# Altium schematic symbol library integrated_circuits_schematic.SchLib: 128 symbols (part 2 of 5)
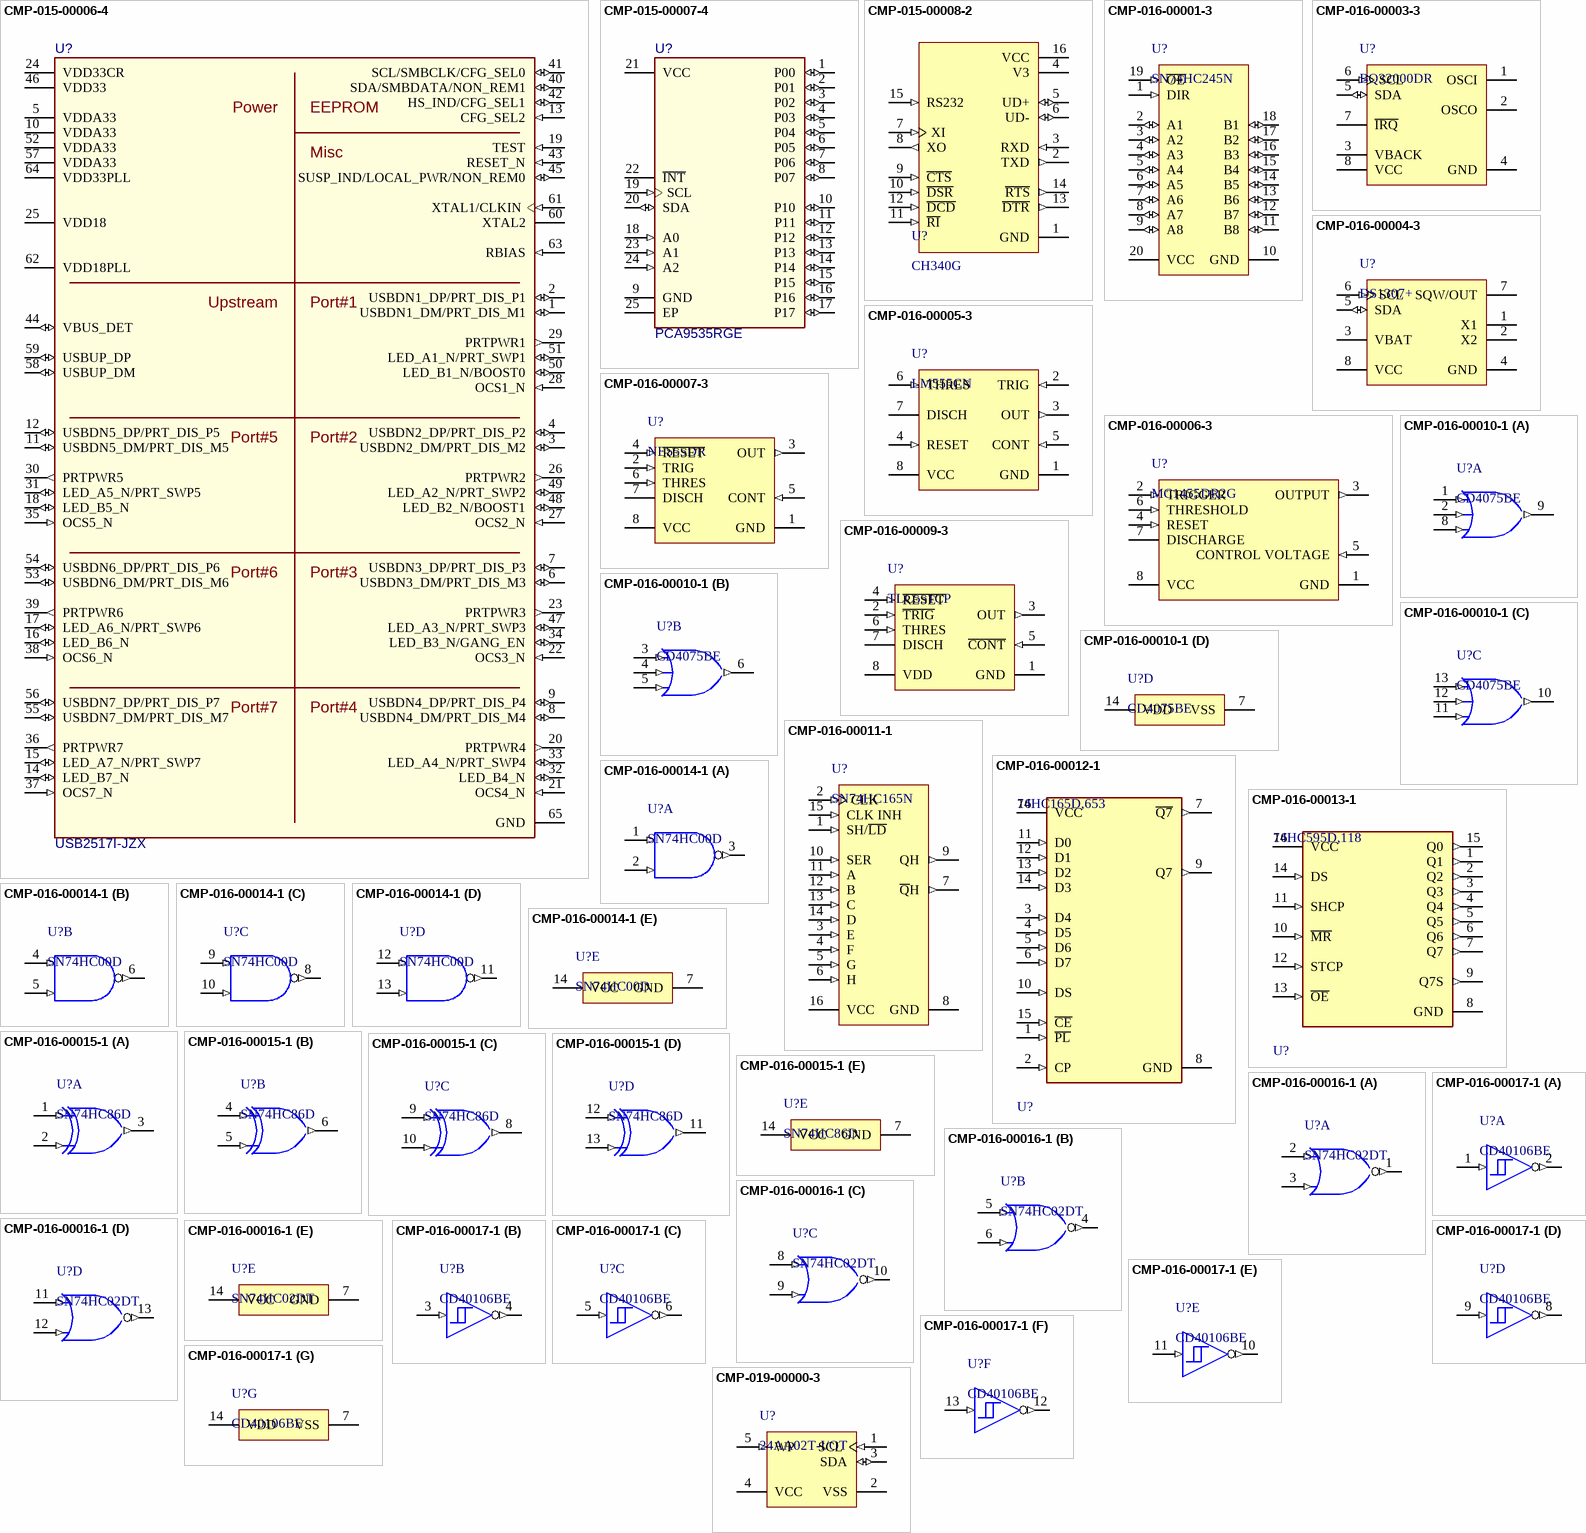
[diagram p8: symbols CMP-015-00006-4 to CMP-019-00000-3]

## CMP-016-00016-1
designator U?, comment SN74HC02DT
NOR Gate, HC Series, 4-Func, 2-Input, CMOS, PDSO14; Min Supply Voltage: 2V; Max Supply Voltage: 6V; Nominal Supply Voltage: 5V; Max Operating Temperature: 85°C; Case/Package: SOP; Min Operating Temperature: -40°C; Logic Type: NOR GATE; RoHS Compliant: Yes; Pins: 14
footprint D0014A_M-4 (SOIC, 14-Leads, Body 8.75x4mm, Pitch 1.27mm, IPC Low Density)
footprint D0014A_N-5 (SOIC, 14-Leads, Body 8.75x4mm, Pitch 1.27mm, IPC Medium Density)
footprint D0014A_L-6 (SOIC, 14-Leads, Body 8.75x4mm, Pitch 1.27mm, IPC High Density)
part A pins: 1 1Y (out) "1Y output", 2 1A (in) "1A input", 3 1B (in) "1B input"
part B pins: 4 2Y (out) "2Y output", 5 2A (in) "2A input", 6 2B (in) "2B input"
part C pins: 8 3A (in) "3A input", 9 3B (in) "3B input", 10 3Y (out) "3Y output"
part D pins: 11 4A (in) "4A input", 12 4B (in) "4B input", 13 4Y (out) "4Y output"
part E pins: 7 GND (power), 14 VCC (power)

## CMP-016-00017-1
designator U?, comment CD40106BE
Inverter, 4000/14000/40000 Series, 6-Func, 1-Input, CMOS, PDIP14; Min Supply Voltage: 3V; Nominal Supply Voltage: 5V; Max Supply Voltage: 18V; Max Operating Temperature: 125°C; Pins: 14; Logic Type: INVERTER; Case/Package: DIP; RoHS Compliant: Yes; Min Operating Temperature: -55°C
footprint N0014A (DIP, 14-Leads, Body 19.7x6.6mm, Pitch 2.54mm)
part A pins: 1 A (in), 2 G=~{A} (out)
part B pins: 3 B (in), 4 H=~{B} (out)
part C pins: 5 C (in), 6 I=~{C} (out)
part D pins: 8 J=~{D} (out), 9 D (in)
part E pins: 10 K=~{E} (out), 11 E (in)
part F pins: 12 L=~{F} (out), 13 F (in)
part G pins: 7 VSS (power), 14 VDD (power)

## CMP-019-00000-3
designator U?, comment 24AA02T-I/OT
I2C Serial EEPROM, 2 Kbit, 1.7 V, -40 to 85 degC, 5-Pin SOT-23, RoHS, Tape and Reel; Manufacturer: Microchip; Access Time: 900ns; Clock Frequency: 400kHz; Density: 2Kb; Max Supply Voltage: 5.5V; Nominal Supply Current: 3mA; Min Supply Voltage: 1.8V; Mounting Technology: SM; Max Operating Temperature: 85°C; Package Description: 5-Pin Small Outline Transistor, Body 2.9 x 1.55 mm, Pitch 0.95 mm; Interface: I2C; Datasheet Version: Rev. J, 02/2009; Packaging: TapeandReel; RoHS Compliant: True; Min Operating Temperature: -40°C; Package Quantity: 3000; Max Clock Frequency: 400KHz; Pins: 5; Datasheet URL: http://ww1.microchip.com/downloads/en/DeviceDoc/21709J.pdf; Frequency: 400kHz; Case/Package: SOT-23-5; Package Reference: SOT23-5; Manufacturer URL: http://www.microchip.com/; Package URL: http://www.microchip.com/stellent/groups/techpub_sg/documents/packagingspec/en012702.pdf
footprint MCHP-SOT23-5_N (SOT23, 5-Leads, Body 3.10x1.80mm, Pitch 0.95mm, IPC Medium Density)
footprint MCHP-SOT23-5_M (SOT23, 5-Leads, Body 3.10x1.80mm, Pitch 0.95mm, IPC Low Density)
footprint MCHP-SOT23-5_L (SOT23, 5-Leads, Body 3.10x1.80mm, Pitch 0.95mm, IPC High Density)
pins: 1 SCL (in), 2 VSS (power), 3 SDA (io), 4 VCC (power), 5 WP (in)

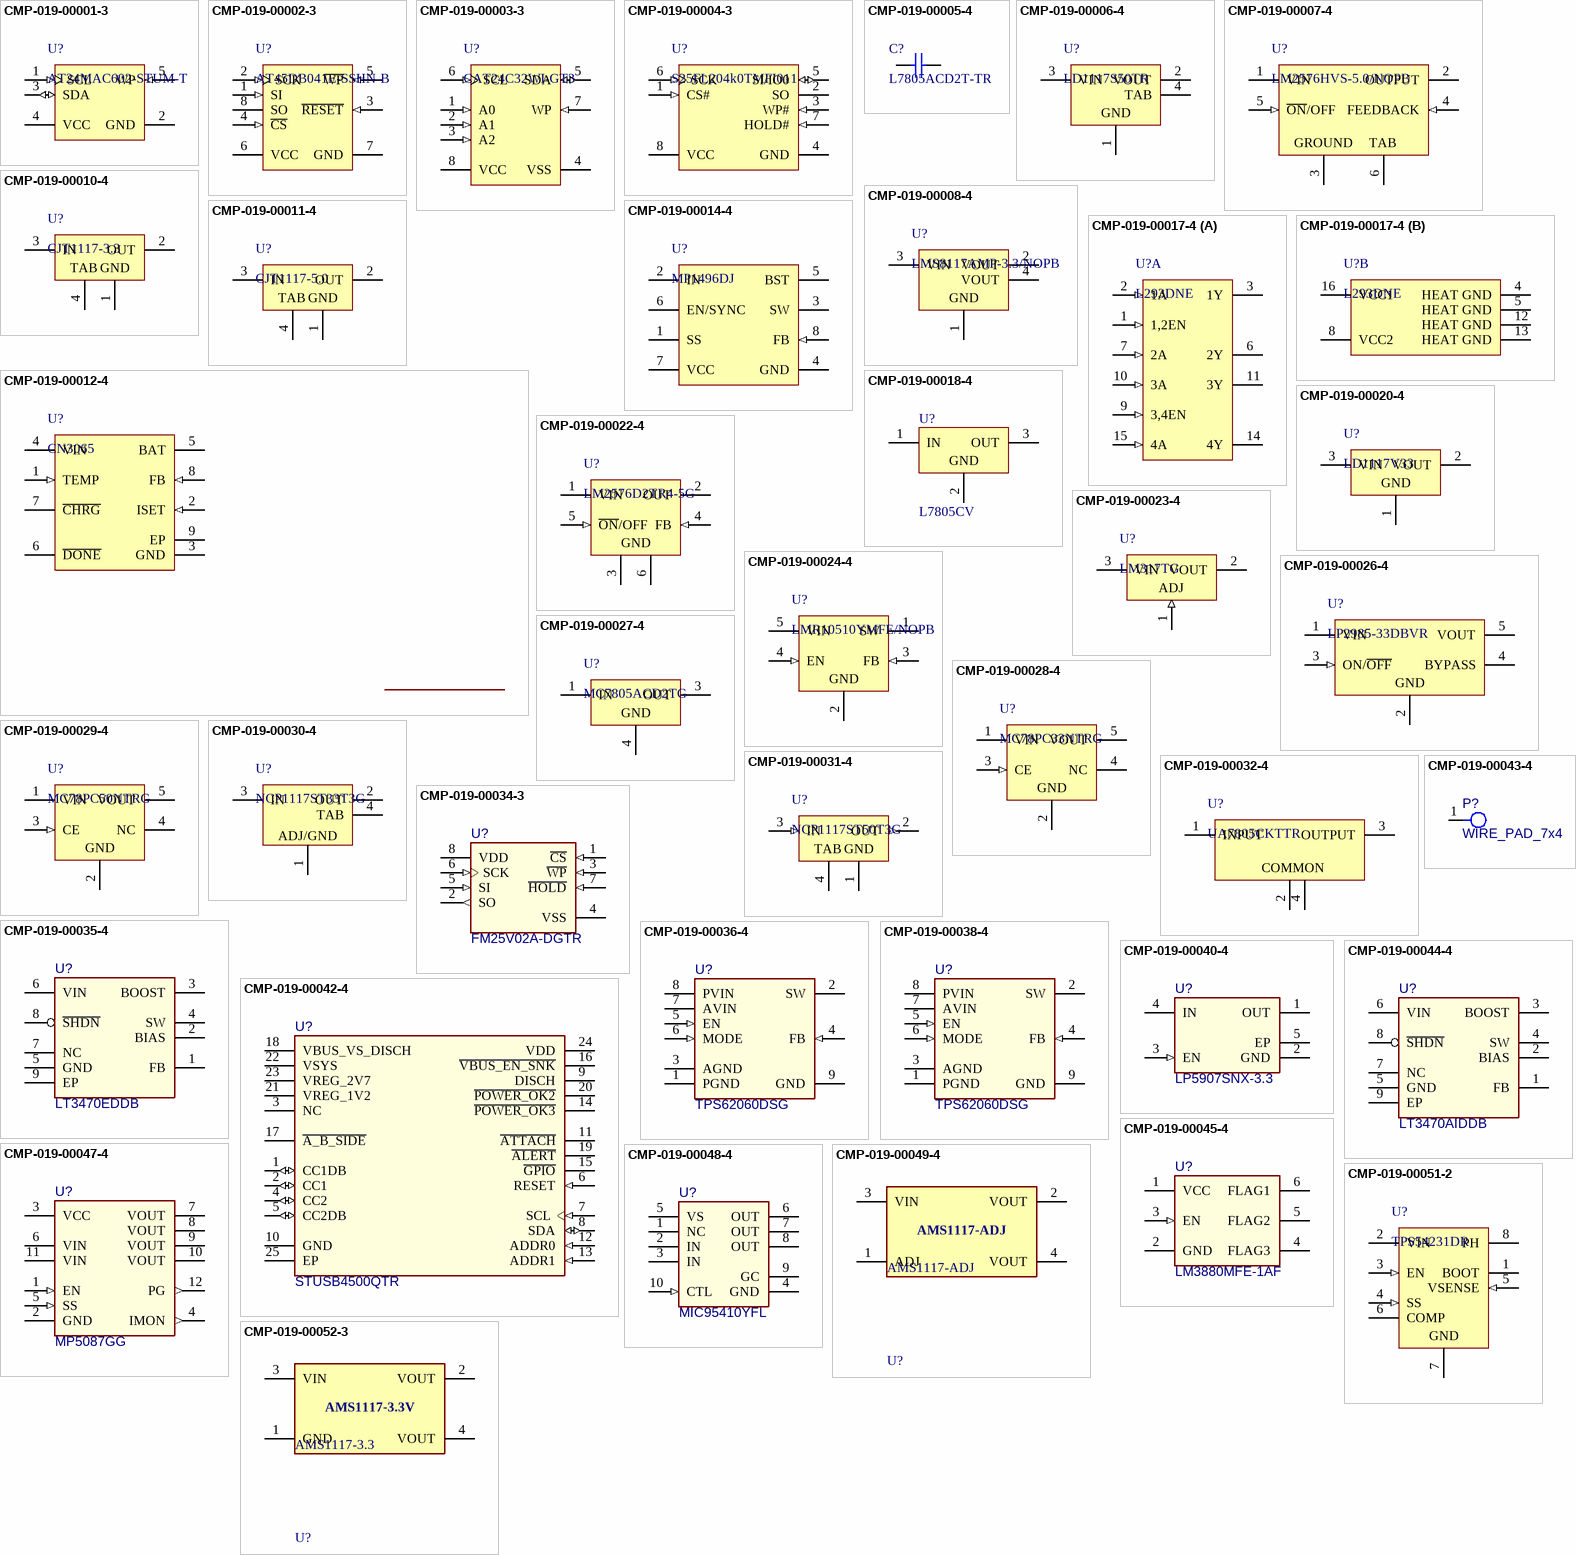
[diagram p2: symbols CMP-019-00001-3 to CMP-019-00052-3]

## CMP-019-00001-3
designator U?, comment AT24MAC602-STUM-T
2-wire Serial EEPROM with a Factory-Programmed EUI-64(TM)Address Plus an Embedded Unique 128-bit Serial Number, 2 Kbit, 1.7 to 5.5 V, -40 to 85 degC, 5-Pin SOT23 (5TS1), Tape and Reel; Manufacturer: Atmel; Nominal Supply Current: 3mA; Access Time: 550ns; Min Supply Voltage: 1.7V; Max Clock Frequency: 1MHz; Density: 2Kb; Max Supply Voltage: 5.5V; Package Description: 5-Pin Plastic Thin Shrink Small Outline Package, Body 2.9 x 1.6 mm, Pitch 0.95 mm; Package Quantity: 5000; Datasheet URL: http://www.atmel.com/Images/Atmel-8807-SEEPROM-AT24MAC402-602-Datasheet.pdf; Max Operating Temperature: 85°C; Case/Package: SOT-23-5; RoHS Compliant: True; Datasheet Version: Rev. 8808E, 01/2015; Interface: Serial; Frequency: 1MHz; Packaging: TapeandReel; Mounting Technology: SM; Package Reference: 5TS1; Manufacturer URL: http://www.atmel.com/; Min Operating Temperature: -40°C; Pins: 5
footprint ATML-5TS1_L (SOT23, 5-Leads, Body 2.9x1.6mm, Pitch 0.95mm, IPC High Density)
footprint ATML-5TS1_M (SOT23, 5-Leads, Body 2.9x1.6mm, Pitch 0.95mm, IPC Low Density)
footprint ATML-5TS1_N (SOT23, 5-Leads, Body 2.9x1.6mm, Pitch 0.95mm, IPC Medium Density)
pins: 1 SCL (in) "Serial Clock Input", 2 GND (power) "Ground", 3 SDA (io) "Serial Data", 4 VCC (power) "Power Supply", 5 WP (in) "Write Protect"

## CMP-019-00002-3
designator U?, comment AT45DB041E-SSHN-B
SPI Serial Flash Memory, 4-Mbit, 1.65 to 3.6 V, -40 to 85 degC, 8-Pin SOIC (8S1), RoHS, Tube; Manufacturer: Adesto; Max Clock Frequency: 70MHz; Access Time: 7ns; Nominal Supply Current: 15mA; Page Size: 264B; Nominal Supply Voltage: 1.8V; Word Size: 8b; Max Supply Voltage: 3.6V; Density: 4Mb; Clock Frequency: 85MHz; Min Supply Voltage: 1.65V; Pins: 8; RoHS Compliant: True; Package Description: 8-Pin Small Outline Integrated Circuit, Body 4.925 x 3.9 mm, Pitch 1.27 mm; Mounting Technology: SM; Manufacturer URL: http://www.adestotech.com/; Packaging: Rail/Tube; Package Reference: 8S1; Min Operating Temperature: -40°C; Max Operating Temperature: 85°C; Case/Package: SOIC; Package Quantity: 98; Datasheet URL: http://www.adestotech.com/wp-content/uploads/doc8783.pdf; Datasheet Version: Rev. 8783I, 03/2016; Interface: SPI
footprint ADST-8S1_M (SOIC, 8-Leads, Body 5.1x4mm, Pitch 1.27mm, IPC Low Density)
footprint ADST-8S1_L (SOIC, 8-Leads, Body 5.1x4mm, Pitch 1.27mm, IPC High Density)
footprint ADST-8S1_N (SOIC, 8-Leads, Body 5.1x4mm, Pitch 1.27mm, IPC Medium Density)
pins: 1 SI (in) "Serial Input: The SI pin is used to shift data into the device. The SI pin is used for all data input including command and address sequences. Data on the SI pin is always latched on the rising edge of SCK. Data present on (See Datasheet)", 2 SCK (in) "Serial Clock: This pin is used to provide a clock to the device and is used to control the flow of data to and from the device. Command, address, and input data present on the SI pin is always latched on the rising edge of (See Datasheet)", 3 ~{RESET} (in) "Reset: A low state on the reset pin (R\E\S\E\T\) will terminate the operation in progress and reset the internal state machine to an idle state. The device will remain in the reset condition as long as a low level is present (See Datasheet)", 4 ~{CS} (in) "Chip Select: Asserting the C\S\ pin selects the device. When the C\S\ pin is deasserted, the device will be deselected and normally be placed in the standby mode (not Deep Power-Down mode) and the output pin (SO) will be in (See Datasheet)", 5 ~{WP} (in) "Write Protect: When the W\P\ pin is asserted, all sectors specified for protection by the Sector Protection Register will be protected against program and erase operations regardless of whether the Enable Sector Protection (See Datasheet)", 6 VCC (power) "Device Power Supply: The VCC pin is used to supply the source voltage to the device. Operations at invalid VCC voltages may produce spurious results and should not be attempted.", 7 GND (power) "Ground: The ground reference for the power supply. GND should be connected to the system ground.", 8 SO (hiz) "Serial Output: The SO pin is used to shift data out from the device. Data on the SO pin is always clocked out on the falling edge of SCK. The SO pin will be in a high-impedance state whenever the device is deselected (C\S\ (See Datasheet)"

## CMP-019-00003-3
designator U?, comment CAT24C32WI-GT3
I2C CMOS Serial EEPROM, 32 Kb, 1.7 to 5.5 V, -40 to 85 degC, 8-Pin SOIC (751BD), RoHS, Tape and Reel; Manufacturer: ON Semiconductor; Nominal Supply Current: 2mA; Access Time: 3500ns; Clock Frequency: 100kHz; Density: 32Kb; Max Supply Voltage: 5.5V; Frequency: 400kHz; Min Supply Voltage: 1.7V; Package URL: http://www.onsemi.com/pub_link/Collateral/751BD.PDF; Max Operating Temperature: 85°C; Pins: 8; Min Operating Temperature: -40°C; Datasheet URL: http://www.onsemi.com/pub_link/Collateral/CAT24C32-D.PDF; Manufacturer URL: http://www.onsemi.com/; Interface: Serial; Datasheet Version: Rev. 24, 06/2015; RoHS Compliant: True; Max Clock Frequency: 100KHz; Mounting Technology: SM; Package Description: 8-Pin Small Outline Integrated Circuit, Body 4.9 x 3.9 mm, Pitch 1.27 mm; Case/Package: SOIC; Package Reference: SOIC-8-751BD-01; Packaging: TapeandReel; Package Quantity: 3000
footprint ONSC-SOIC-8-751BD-01_M (SOIC, 8-Leads, Body 5x4mm, Pitch 1.27mm, IPC Low Density)
footprint ONSC-SOIC-8-751BD-01_L (SOIC, 8-Leads, Body 5x4mm, Pitch 1.27mm, IPC High Density)
footprint ONSC-SOIC-8-751BD-01_N (SOIC, 8-Leads, Body 5x4mm, Pitch 1.27mm, IPC Medium Density)
pins: 1 A0 (in) "Device Address", 2 A1 (in) "Device Address", 3 A2 (in) "Device Address", 4 VSS (power) "Ground", 5 SDA (io) "Serial Data", 6 SCL (in) "Serial Clock", 7 WP (in) "Write Protect", 8 VCC (power) "Power Supply"

## CMP-019-00004-3
designator U?, comment S25FL204k0TMFI011
SPI Flash Memory, 2.7 to 3.6 V, -40 to 85 degC, 8-Pin SOIC (SOC 008), RoHS, Tube; Manufacturer: Cypress; Datasheet URL: http://www.cypress.com/file/196871/download; Package Reference: SOIC-8; Datasheet Version: Rev. *G , 09/2015; Package Description: 8-Pin Small Outline Integrated Circuit, Body 5.283 x 5.283 mm, Pitch 1.27 mm; RoHS Compliant: True; Mounting Technology: SM; Manufacturer URL: http://www.cypress.com/; Case/Package: SOIC-8
footprint CYP-SOC-8_N (SOIC, 8-Leads, Body 5.3x5.3mm, Pitch 1.27mm, IPC Medium Density)
footprint CYP-SOC-8_M (SOIC, 8-Leads, Body 5.3x5.3mm, Pitch 1.27mm, IPC Low Density)
footprint CYP-SOC-8_L (SOIC, 8-Leads, Body 5.3x5.3mm, Pitch 1.27mm, IPC High Density)
pins: 1 CS# (in) "Chip Enable", 2 SO (hiz) "Serial Data Output", 3 WP# (in) "Write Protect", 4 GND (power) "Ground", 5 SI/IO0 (io) "Serial Data Input / Output", 6 SCK (in) "Serial Clock Input", 7 HOLD# (in) "Hold Input", 8 VCC (power) "Supply Voltage (2.7-3.6V)"

## CMP-019-00005-4
designator C?, comment L7805ACD2T-TR
Positive Voltage Regulator IC, 5 V, 1.5 A, 0 to 125 degC, 3-Pin D2PAK, RoHS, Tape and Reel; Manufacturer: STMicroelectronics; Min Input Voltage: 7V; Max Input Voltage: 35V; Output Voltage: 5V; Max Supply Voltage: 20V; Outputs: 1; Min Supply Voltage: 7.5V; Package Version: Rev. 1, 11/2014; Dropout Voltage: 2V; Output Current: 1.5A; Max Ouput Current: 1A; Locally Supplier Name: Thegioiic; Locally Supplier URL: https://www.thegioiic.com/l7805acd2t-ic-on-ap-5v-1-5a; Package Quantity: 1000; Datasheet Version: Rev. 34, 11/2016; Manufacturer URL: http://www.st.com/; Packaging: TapeandReel; Mounting Technology: SM; Package Reference: D2PAK; Max Operating Temperature: 125°C; Case/Package: TO-263-3; Package Description: 3-Pin D2PAK, Body 10.2 x 9.15 mm, Pitch 2.54 mm; Package URL: http://www.st.com/st-web-ui/static/active/en/resource/technical/document/datasheet/DM00122355.pdf; Pins: 8; Nominal Output Voltage: 5V; Datasheet URL: http://www.st.com/content/ccc/resource/technical/document/datasheet/41/4f/b3/b0/12/d4/47/88/CD00000444.pdf/files/CD00000444.pdf/jcr:content/translations/en.CD00000444.pdf; RoHS Compliant: True; Min Operating Temperature: 0°C
footprint STM-D2PAK_V (DPAK, 3-Leads, Body 10.2x9.15mm, Pitch 2.54mm)
pins: 1, 2

## CMP-019-00006-4
designator U?, comment LD1117S50TR
Fixed Low Drop Positive Voltage Regulator, 5 V, 0 to 125 degC, 4-Pin SOT223, RoHS, Tape and Reel; Manufacturer: STMicroelectronics; Max Input Voltage: 15V; Min Input Voltage: 6.5V; Nominal Output Voltage: 5V; Power: 12W; Outputs: 1; Output Current: 950mA; Dropout Voltage: 1.1V; Max Ouput Current: 1.3A; Min Operating Temperature: 0°C; RoHS Compliant: True; Package Reference: SOT-223; Packaging: TapeandReel; Max Operating Temperature: 125°C; Locally Supplier URL: https://www.thegioiic.com/ld1117s50ctr-ic-on-ap-5v-800ma; Case/Package: TO-261-4; Max Supply Voltage: 15V; Min Supply Voltage: 6.5V; Manufacturer URL: http://www.st.com/; Output Voltage: 5V; Package Description: 4-Pin Small Outline Transistor, Body 6.5 x 3.5 mm, Pitch 2.3 mm; Datasheet URL: http://www.st.com/content/ccc/resource/technical/document/datasheet/99/3b/7d/91/91/51/4b/be/CD00000544.pdf/files/CD00000544.pdf/jcr:content/translations/en.CD00000544.pdf; Mounting Technology: SM; Datasheet Version: Nov-13; Package Quantity: 2500; Pins: 4; Locally Supplier Name: Thegioiic
footprint STM-SOT-223_N (SOT223, 4-Leads, Body 6.7x3.7mm, Pitch 2.3mm, IPC Medium Density)
footprint STM-SOT-223_M (SOT223, 4-Leads, Body 6.7x3.7mm, Pitch 2.3mm, IPC Low Density)
footprint STM-SOT-223_L (SOT223, 4-Leads, Body 6.7x3.7mm, Pitch 2.3mm, IPC High Density)
pins: 1 GND (power), 2 VOUT (power), 3 VIN (power), 4 TAB (power)

## CMP-019-00007-4
designator U?, comment LM2576HVS-5.0/NOPB
SIMPLE SWITCHER(R) Step-Down Regulator, 5 V, 3 A, -40 to 125 degC, 5-Pin TO-263 (TKK), Pb-Free (RoHS Exempt), Tube; Manufacturer: Texas Instruments; Efficiency: 77%; Max Supply Voltage: 60V; Frequency: 58kHz; Output Voltage: 5V; Min Input Voltage: 4V; Outputs: 1; Max Ouput Current: 3A; Package Quantity: 45; Packaging: Rail/Tube; Min Operating Temperature: -40°C; Datasheet URL: http://www.ti.com/lit/ds/symlink/lm2576hv.pdf; Package Description: 5-Pin Surface Mount Device, Body 10.225 x 9.91 mm, Pitch 1.7 mm; Max Input Voltage: 60V; Case/Package: TO-263-5; Manufacturer URL: http://www.ti.com/; RoHS Compliant: True; Locally Supplier Name: Thegioiic; Switching Frequency: 58KHz; Max Operating Temperature: 125°C; Min Supply Voltage: 4V; Package Reference: KTT0005B; Pins: 5; Output Current: 3A; Mounting Technology: SM; Locally Supplier URL: https://www.thegioiic.com/lm2576hvs-5-0-ic-dieu-chinh-giam-ap-5v-3a-to-263-5; Datasheet Version: SNVS107D, 05/2016
footprint KTT0005B_M (DPAK, 5-Leads, Body 10.65x9.65mm, Pitch 1.7mm, IPC Low Density)
footprint KTT0005B_L (DPAK, 5-Leads, Body 10.65x9.65mm, Pitch 1.7mm, IPC High Density)
footprint KTT0005B_N (DPAK, 5-Leads, Body 10.65x9.65mm, Pitch 1.7mm, IPC Medium Density)
pins: 1 VIN (power) "Supply input pin to collector pin of high-side transistor. Connect to power supply and input bypass capacitors CIN. Path from VIN pin to high frequency bypass CIN and GND must be as short as possible.", 2 OUTPUT (power) "Emitter pin of the power transistor. This is a switching node. Attached this pin to an inductor and the cathode of the external diode.", 3 GROUND (power) "Ground pin. Path to CIN must be as short as possible.", 4 FEEDBACK (in) "Feedback sense input pin. Connect to the midpoint of feedback divider to set VOUT for ADJ version or connect this pin directly to the output capacitor for a fixed output version.", 5 ~{ON}/OFF (in) "Enable input to the voltage regulator. High = OFF and low = ON. Connect to GND to enable the voltage regulator. Do not leave this pin float.", 6 TAB (power) "Connected to GND. Put a copper plane connected to this pin as a thermal relief for DDPAK package."

## CMP-019-00008-4
designator U?, comment LMS8117AMP-3.3/NOPB
Low-Dropout Linear Regulator, 1 A, 3.3 V, 0 to 125 degC, 4-Pin SOT223 (DCY), RoHS, Tape and Reel; Manufacturer: Texas Instruments; Min Input Voltage: 2.5V; Output Voltage: 3.3V; Max Supply Voltage: 15V; Dropout Voltage: 1.2V; Output Current: 1A; Min Supply Voltage: 3.2V; Outputs: 1; Nominal Supply Current: 5mA; Packaging: TapeandReel; Min Operating Temperature: 0°C; Package Description: 4-Pin Small Outline Transistor, Body 6.5 x 3.5 mm, Pitch 2.3 mm; Manufacturer URL: http://www.ti.com/; Datasheet URL: http://www.ti.com/lit/ds/symlink/lms8117a.pdf; Pins: 4; RoHS Compliant: True; Max Input Voltage: 15V; Mounting Technology: SM; Package Reference: DCY0004A; Max Ouput Current: 1A; Case/Package: SOT-223; Datasheet Version: SNOS487F, 05/2004; Package Quantity: 1000; Max Operating Temperature: 125°C
footprint DCY0004A_M (SOT223, 4-Leads, Body 6.7x3.7mm, Pitch 2.3mm, IPC Low Density)
footprint DCY0004A_N (SOT223, 4-Leads, Body 6.7x3.7mm, Pitch 2.3mm, IPC Medium Density)
footprint DCY0004A_L (SOT223, 4-Leads, Body 6.5x3.5mm, Pitch 2.3mm, IPC High Density)
pins: 1 GND (power) "Ground pin for fixed output option.", 2 VOUT (power) "Output voltage pin for the regulator", 3 VIN (power) "Input voltage pin for the regulator", 4 VOUT (power) "Output voltage pin for the regulator"

## CMP-019-00010-4
designator U?, comment CJT1117-3.3
Low Dropout Linear Regulator, 1 A, 3.3 V, 0 to 125 degC, 4-Pin SOT223, RoHS, Tape and Reel; Manufacturer: Jiangsu Changjiang Electronics Technology; Package Description: 4-Pin Small Outline Transistor, Body 6.3 x 3.5 mm, Pitch 2.3 mm; Datasheet URL: https://statics3.seeedstudio.com/images/opl/datasheet/1310190P1.pdf; Package URL: http://www.cj-elec.com/gallery/txUpfile/2013626129718915.pdf; Datasheet Version: Rev. A, 01/2012; RoHS Compliant: Unknown; Package Reference: SOT223-4; Mounting Technology: SM; Case/Package: SOT223-4
footprint JSCJ-SOT223-4_L (SOT223, 4-Leads, Body 6.4x3.7mm, Pitch 2.3mm, IPC High Density)
footprint JSCJ-SOT223-4_N (SOT223, 4-Leads, Body 6.4x3.7mm, Pitch 2.3mm, IPC Medium Density)
footprint JSCJ-SOT223-4_M (SOT223, 4-Leads, Body 6.4x3.7mm, Pitch 2.3mm, IPC Low Density)
pins: 1 GND (power), 2 OUT (power), 3 IN (power), 4 TAB

## CMP-019-00011-4
designator U?, comment CJT1117-5.0
Low Dropout Linear Regulator, 1 A, 5 V, 0 to 125 degC, 4-Pin SOT223, RoHS, Tape and Reel; Manufacturer: Jiangsu Changjiang Electronics Technology; Datasheet Version: Rev. A, 01/2012; Package Description: 4-Pin Small Outline Transistor, Body 6.3 x 3.5 mm, Pitch 2.3 mm; Package Reference: SOT223-4; Package URL: http://www.cj-elec.com/gallery/txUpfile/2013626129718915.pdf; Case/Package: SOT223-4; RoHS Compliant: Unknown; Datasheet URL: https://statics3.seeedstudio.com/images/opl/datasheet/1310190P1.pdf; Mounting Technology: SM
footprint JSCJ-SOT223-4_L (SOT223, 4-Leads, Body 6.4x3.7mm, Pitch 2.3mm, IPC High Density)
footprint JSCJ-SOT223-4_N (SOT223, 4-Leads, Body 6.4x3.7mm, Pitch 2.3mm, IPC Medium Density)
footprint JSCJ-SOT223-4_M (SOT223, 4-Leads, Body 6.4x3.7mm, Pitch 2.3mm, IPC Low Density)
pins: 1 GND (power), 2 OUT (power), 3 IN (power), 4 TAB

## CMP-019-00012-4
designator U?, comment CN3065
Lithium Ion Battery Charger for Solar-Powered System, 4.4 to 6 V, 650 uA, -40 to 85 degC, 8-Pin DFN, RoHS; Manufacturer: Consonance Electronic; Datasheet URL: http://www.consonance-elec.com/pdf/datasheet/DSE-CN3065.pdf; Case/Package: DFN-8; RoHS Compliant: Unknown; Package Reference: DFN-8; Package Description: 8-Pin Small Outline No-lead Package, Body 3 x 3 mm, Pitch 0.5 mm; Mounting Technology: SM; Datasheet Version: Rev. 1.0, 09/2009; Manufacturer URL: http://www.consonance-elec.com/
footprint CONS-DFN-8_N (SON, 8-Leads, Body 3.1x3.1mm, Pitch 0.5mm, Thermal Pad 2.4x1.7mm, IPC Medium Density)
footprint CONS-DFN-8_L (SON, 8-Leads, Body 3.10x3.10mm, Pitch 0.50mm, Thermal Pad 2.40x1.7mm, IPC High Density)
footprint CONS-DFN-8_M (SON, 8-Leads, Body 3.1x3.1mm, Pitch 0.5mm, Thermal Pad 2.4x1.7mm, IPC Low Density)
pins: 1 TEMP (in) "Temperature Sense Input. Connecting TEMP pin to NTC thermistor’s output in Lithium ion battery pack. If TEMP pin’s voltage is below 46% of input supply voltage VIN for more than 0.15S, this means that batter(See Datasheet)", 2 ISET (in) "Constant Charge Current Setting and Charge Current Monitor Pin. The charge current is set by connecting a resistor RISET from this pin to GND. When in precharge mode, the ISET pin’s voltage is regulated to 0.2V. When i(See Datasheet)", 3 GND (power) "Ground Terminal.", 4 VIN (power) "Positive Input Supply Voltage. VIN is the power supply to the internal circuit. When VIN drops to within 40mv of the BAT pin voltage, CN3065 enters low power sleep mode, dropping BAT pin’s current to less than 3uA.", 5 BAT (power) "Battery Connection Pin. Connect the positive terminal of the battery to BAT pin. BAT pin draws less than 3uA current in chip disable mode or in sleep mode. BAT pin provides charge current to the battery and provides (See Datasheet)", 6 ~{DONE} (hiz) "Open-Drain Charge termination Status Output. In charge termination status, D\O\N\E\ is pulled low by an internal switch; Otherwise D\O\N\E\ pin is in high impedance state.", 7 ~{CHRG} (hiz) "Open Drain Charge Status Output. When the battery is being charged, the C\H\R\G\  pin is pulled low by an internal switch, otherwise C\H\R\G\ pin is in high impedance state.", 8 FB (in) "Battery Voltage Kevin Sense Input. This Pin can Kelvin sense the battery voltage; Also the regulation voltage in constant voltage mode can be adjusted by connecting an external resistor between FB pin and BAT pin.", 9 EP

## CMP-019-00014-4
designator U?, comment MP1496DJ
High-Efficiency, Synchronous, Step-Down Converter, 2 A, 16 V, 500 KHz, -40 to 125 degC, 8-Pin TSOT23, RoHS, Tape and Reel; Manufacturer: Monolithic Power Systems; Manufacturer URL: http://www.monolithicpower.com/; Mounting Technology: SM; Package Reference: TSOT23-8; Package Description: 8-Pin Small Outline Package Integrated Circuit, Body 1.6 x 2.9 mm, Pitch 0.65 mm; Datasheet URL: http://www.monolithicpower.com/DesktopModules/DocumentManage/API/Document/getDocument?id=443; Case/Package: TSOT23-8; RoHS Compliant: Unknown; Datasheet Version: Rev. 1.05, 12/2012
footprint MPS-TSOT23-8_V (SOP, 8-Leads, Body 3x1.7mm, Pitch 0.65mm)
pins: 1 SS "Soft-Start. Connect an external capacitor to program the soft start time for the switch mode regulator.", 2 IN (power) "Supply Voltage. The MP1496 operates from a 4.5V-to-16V input rail. C1 decouples the input rail. Use wide PCB trace to make the connection.", 3 SW "Switch Output. Connect using a wide PCB trace.", 4 GND (power) "System Ground. Reference ground of the regulated output voltage. Use special care in PCB layout: Connect to GND with copper and vias.", 5 BST "Bootstrap. Connect a capacitor between SW and BST pins to form a floating supply across the high-side switch driver. A 10ohm resistor placed between SW and BST cap. is strongly recommended to reduce SW spike voltage.", 6 EN/SYNC "Enable/Synchronize. EN high to enable the MP1496. Apply an external clock to EN/SYNC pin to change the switching frequency", 7 VCC (power) "Bias Supply. Decouple with 0.1uF-to-0.22uF cap. The capacitance should not exceed 0.22uF. VCC capacitor should be put closely to VCC pin and GND pin.", 8 FB (in) "Feedback. Connect to the tap of an external resistor divider from the output to GND to set the output voltage. The frequency fold-back comparator lowers the oscillator frequency when the FB voltage is below 400mV to prevent (See Datasheet)"

## CMP-019-00017-4
designator U?, comment L293DNE
Quadruple Half-H Driver, 1.2 A Peak, 4.5 to 36 V, 0 to 70 degC, 16-Pin DIP (NE), Pb-Free (RoHS), Tube; Manufacturer: Texas Instruments; Package Version: 4040054/B, 04/1995; Interface: Parallel; Max Supply Voltage: 36V; Output Current: 600mA; Outputs: 4; Min Supply Voltage: 4.5V; Case/Package: DIP; Mounting Technology: TH; Pins: 16; Package Reference: NE0016A; Max Operating Temperature: 70°C; Manufacturer URL: http://www.ti.com/; Package Quantity: 25; Package URL: http://www.ti.com/lit/ml/mpdi003/mpdi003.pdf; Min Operating Temperature: 0°C; Datasheet URL: http://www.ti.com/general/docs/lit/getliterature.tsp?genericPartNumber=l293d&fileType=pdf; Package Description: 16-Pin Through Hole Device, Body 19.8 x 6.35 mm, Pitch 2.54 mm, Row Spacing 7.62 mm; Output Voltage: 36V; RoHS Compliant: True; Datasheet Version: SLRS008D, 01/2016; Packaging: Rail/Tube
footprint NE0016A (DIP, 16-Leads, Body 19.8x6.6mm, Pitch 2.54mm, Row Spacing 7.62mm)
part A pins: 1 1,2EN (in), 2 1A (in), 3 1Y (hiz), 6 2Y (hiz), 7 2A (in), 9 3,4EN (in), 10 3A (in), 11 3Y (hiz), 14 4Y (hiz), 15 4A (in)
part B pins: 4 HEAT GND (power), 5 HEAT GND (power), 8 VCC2 (power), 12 HEAT GND (power), 13 HEAT GND (power), 16 VCC1 (power)

## CMP-019-00018-4
designator U?, comment L7805CV
Positive Voltage Regulator IC, 1.5 A, 5 V, 0 to 125 degC, 3-Pin TO-220, RoHS, Tube; Manufacturer: STMicroelectronics; Output Current: 1.5A; Max Supply Voltage: 20V; Outputs: 1; Max Input Voltage: 35V; Output Voltage: 5V; Min Input Voltage: 7V; Min Supply Voltage: 8V; Dropout Voltage: 2V; Max Operating Temperature: 125°C; Datasheet URL: https://datasheet.ciiva.com/15111/getdatasheetpartid-44136-15111027.pdf; RoHS Compliant: True; Max Ouput Current: 1.5A; Mounting Technology: TH; Case/Package: TO-220; Pins: 3; Datasheet Version: Rev 30, 09/2012; Packaging: Rail/Tube; Locally Supplier Name: Thegioiic; Manufacturer URL: http://www.st.com/; Locally Supplier URL: https://www.thegioiic.com/l7805cv-cn-ic-on-ap-5v-1-5a; Package Quantity: 50; Min Operating Temperature: 0°C; Nominal Output Voltage: 5V
footprint TO220 (TO, Thru-Hole, Vertical, Heatsink Mounted; 3 In-Line Leads; Pitch 2.54 mm)
pins: 1 IN (power), 2 GND (power), 3 OUT (power)

## CMP-019-00020-4
designator U?, comment LD1117V33
Low Drop Positive Voltage Regulator, 800 mA, Fixed 3.3 V Output, 0 to 125 degC, 3-Pin TO-220, RoHS, Tube; Manufacturer: STMicroelectronics; Output Voltage: 3.3V; Min Supply Voltage: 4.75V; Min Input Voltage: 4.4V; Output Current: 1.3A; Outputs: 1; Max Supply Voltage: 15V; Dropout Voltage: 1.1V; Max Ouput Current: 800mA; Power: 12W; Nominal Output Voltage: 3.3V; Locally Supplier URL: https://www.thegioiic.com/ld1117v33-ic-on-ap-3-3v-800ma; RoHS Compliant: True; Pins: 3; Max Operating Temperature: 125°C; Packaging: Rail/Tube; Locally Supplier Name: Thegioiic; Case/Package: TO-220-3; Datasheet URL: http://www.farnell.com/datasheets/1776449.pdf; Package Quantity: 50; Manufacturer URL: http://www.st.com/; Datasheet Version: Rev. A, 07/2003; Min Operating Temperature: 0°C; Max Input Voltage: 15V
footprint STM-TO220-3 (FM, 3-Leads, Body 10.4x4.6mm, Pitch 2.55mm)
pins: 1 GND (power), 2 VOUT (power), 3 VIN (power)

## CMP-019-00022-4
designator U?, comment LM2576D2TR4-5G
Step-Down Switching Regulator, 3 A, 5 V, -40 to 125 degC, 5-Pin D2PAK (936A-02), RoHS, Tape and Reel; Manufacturer: ON Semiconductor; Max Ouput Current: 3A; Output Voltage: 5V; Max Input Voltage: 45V; Efficiency: 77%; Min Input Voltage: 7V; Frequency: 52kHz; Outputs: 1; Package Reference: D2PAK-5-936A-02; Case/Package: TO-263-6; Datasheet URL: http://www.onsemi.com/pub_link/Collateral/LM2576-D.PDF; Datasheet Version: Rev. 8, 01/2006; Package Description: 5-Pin Transistor Outline, Body 10.02 x 9.1945 mm, Pitch 1.702 mm; Package Quantity: 800; Max Operating Temperature: 125°C; Mounting Technology: SM; Manufacturer URL: http://www.onsemi.com/; Output Current: 3A; Packaging: TapeandReel; RoHS Compliant: True; Min Operating Temperature: -40°C
footprint ONSC-D2PAK-5-936A-02_V (DPAK, 5-Leads, Body 10.02x9.194mm, Pitch 1.702mm)
pins: 1 VIN (power) "This pin is the positive input supply for the LM2576 step-down switching regulator. In order to minimize voltage transients and to supply the switching currents needed by the regulator, a suitable input bypass capacitor must (See Datasheet)", 2 OUT (power) "This is the emitter of the internal switch. The saturation voltage Vsat of this output switch is typically 1.5 V. It should be kept in mind that the PCB area connected to this pin should be kept to a minimum in order to (See Datasheet)", 3 GND (power) "Circuit ground pin. See the information about the printed circuit board layout.", 4 FB (in) "This pin senses regulated output voltage to complete the feedback loop. The signal is divided by the internal resistor divider network R2, R1 and applied to the non-inverting input of the internal error amplifier. In the (See Datasheet)", 5 ~{ON}/OFF (in) "It allows the switching regulator circuit to be shut down using logic level signals, thus dropping the total input supply current to approximately 80 uA. The input threshold voltage is typically 1.4 V. Applying a voltage (See Datasheet)", 6 GND (power) "Heatsink surface (shown as terminal 6 in case outline drawing) is connected to Pin 3"

## CMP-019-00023-4
designator U?, comment LM317TG
Adjustable Output, Positive Voltage Regulator, 1.5 A, 0 to 125 degC, 3-Pin TO-220 (221AB-01), Pb-Free, Rail; Manufacturer: ON Semiconductor; Max Input Voltage: 40V; Max Ouput Current: 1.5A; Package Version: Rev. A, 11/2010; Outputs: 1; Output Voltage: 1.2V; Min Input Voltage: 4.2V; Package Quantity: 50; Case/Package: TO-220; Locally Supplier URL: https://www.thegioiic.com/lm317t-ic-dieu-chinh-dien-ap-1-5a; Min Operating Temperature: 0°C; Package Description: 3-Pin Flange Mount, Vertical Straight Lead, Body 9.97 x 4.445 mm, Pitch 2.54 mm; Locally Supplier Name: Thegioiic; Max Operating Temperature: 125°C; Datasheet URL: http://www.onsemi.com/pub_link/Collateral/LM317-D.PDF; RoHS Compliant: True; Pins: 3; Package Reference: TO-220-3-221AB-01; Packaging: Rail/Tube; Output Current: 1.5A; Datasheet Version: Rev. 14, 01/2016; Manufacturer URL: http://www.onsemi.com/; Mounting Technology: TH
footprint ONSC-TO-220-3-221AB-01 (FM, 3-Leads, Body 10.3x4.85mm, Pitch 2.54mm)
pins: 1 ADJ (in), 2 VOUT (power), 3 VIN (power)

## CMP-019-00024-4
designator U?, comment LMR10510YMFE/NOPB
Simple Switcher, Step-Down Voltage Regulator, 3 to 5.5 V Input, 1 A, 0.6 to 4.5 V Output, -40 to 125 degC, 5-Pin SOT-23 (DBV), Green (RoHS & no Sb/Br), Tape and Reel; Manufacturer: Texas Instruments; Output Voltage: 4.5V; Max Input Voltage: 5.5V; Outputs: 1; Switching Frequency: 3MHz; Max Ouput Current: 1A; Min Input Voltage: 3V; Mounting Technology: SM; Case/Package: SOT-23-5; Datasheet Version: SNVS727B, 04/2013; Manufacturer URL: http://www.ti.com/; Package Description: 5-Pin Small Outline Transistor, Body 2.9 x 1.6 mm, Pitch 0.95 mm; Packaging: TapeandReel; Max Operating Temperature: 125°C; Datasheet URL: http://www.ti.com/lit/ds/symlink/lmr10510.pdf; Pins: 5; Package Quantity: 250; Package URL: http://www.ti.com/lit/ml/mpds018l/mpds018l.pdf; Min Operating Temperature: -40°C; Package Reference: DBV0005A; Output Current: 1A; RoHS Compliant: True; Frequency: 3MHz
footprint DBV0005A_L (SOT23, 5-Leads, Body 3.05x1.75mm, Pitch 0.95mm, IPC High Density)
footprint DBV0005A_M (SOT23, 5-Leads, Body 3.05x1.75mm, Pitch 0.95mm, IPC Low Density)
footprint DBV0005A_N (SOT23, 5-Leads, Body 3.05x1.75mm, Pitch 0.95mm, IPC Medium Density)
pins: 1 SW (power) "Switch node. Connect to the inductor, output diode.", 2 GND (power) "Signal and power ground pin. Place the bottom resistor of the feedback network as close as possible to this pin.", 3 FB (in) "Feedback pin. Connect FB to external resistor divider to set output voltage.", 4 EN (in) "Shutdown control input. Logic high enables operation. Do not allow this pin to float or be greater than VIN + 0.3V.", 5 VIN (power) "input supply voltage."

## CMP-019-00026-4
designator U?, comment LP2985-33DBVR
Single Output Low Noise LDO, 150 mA, Fixed 3.3 V Output, 1.5% Tolerance, 2.2 to 16 V Input, Low IQ, 5-Pin SOT-23 (DBV), -40 to 125 degC, Green (RoHS & no Sb/Br), Tape and Reel; Manufacturer: Texas Instruments; Max Input Voltage: 16V; Output Current: 150mA; Output Voltage: 3.3V; Dropout Voltage: 3mV; Package Version: 4073253-4/N, 12/2014; Min Input Voltage: 2.2V; Outputs: 1; Package Reference: DBV5; Datasheet Version: SLVS522O, 01/2015; Package URL: http://www.ti.com/lit/ml/mpds018l/mpds018l.pdf; Datasheet URL: http://www.ti.com/lit/ds/symlink/lp2985.pdf; Min Operating Temperature: -40°C; Case/Package: SOT-23-5; Manufacturer URL: http://www.ti.com/; Package Quantity: 3000; Max Operating Temperature: 125°C; Max Ouput Current: 150mA; Locally Supplier URL: https://www.thegioiic.com/lp2985-33dbvr-ic-on-ap-3-3v-150ma; Pins: 16; Packaging: TapeandReel; Package Description: 5-Pin Small Outline Transistor, Body 2.9 x 1.6 mm, Pitch 0.95 mm; Locally Supplier Name: Thegioiic; RoHS Compliant: True; Nominal Output Voltage: 3.3V; Mounting Technology: SM
footprint TI-DBV5_V (SOT23, 5-Leads, Body 3.05x1.75mm, Pitch 0.95mm)
pins: 1 VIN (power), 2 GND (power), 3 ON/~{OFF} (in), 4 BYPASS, 5 VOUT (power)

## CMP-019-00027-4
designator U?, comment MC7805ACD2TG
Positive Voltage Regulator, 5 V Output Voltage, 1 A, 0 to 125 degC, 3-Pin D2PAK (936-03), Pb-Free, Tube; Manufacturer: ON Semiconductor; Outputs: 1; Output Current: 1A; Nominal Output Voltage: 5V; Package Version: Rev. E, 09/2015; Min Input Voltage: 7V; Dropout Voltage: 2V; Max Input Voltage: 35V; Package Reference: D2PAK-3-936-03; Manufacturer URL: http://www.onsemi.com/; Package URL: http://www.onsemi.com/pub_link/Collateral/936-03.PDF; Pins: 3; Packaging: Rail/Tube; Package Quantity: 50; Min Operating Temperature: 0°C; Datasheet URL: http://www.onsemi.com/pub_link/Collateral/MC7800-D.PDF; Case/Package: TO-263-3; RoHS Compliant: True; Max Ouput Current: 1A; Package Description: 3-Pin Flange Mount, Body 10.02 x 9.1945 mm, Pitch 2.54 mm; Mounting Technology: SM; Output Voltage: 5V; Max Operating Temperature: 125°C; Datasheet Version: Rev. 27, 11/2014
footprint ONSC-D2PAK-3-936-03_V (DPAK, 3-Leads, Body 10.24x9.35mm, Pitch 2.54mm)
pins: 1 IN (power), 3 OUT (power), 4 GND (power)

## CMP-019-00028-4
designator U?, comment MC78PC33NTRG
Low Noise Low Drop Out (LDO) Linear Voltage Regulator, 3.3 V Output Voltage, 150 mA, -40 to 85 degC, 5-Pin SOT-23 (1212-01), Pb-Free, Tape and Reel; Manufacturer: ON Semiconductor; Max Input Voltage: 8V; Power: 250mW; Min Input Voltage: 4.3V; Output Current: 150mA; Dropout Voltage: 300mV; Output Voltage: 3.3V; Outputs: 1; Package Reference: SOT-23-5-1212-01_O; Min Operating Temperature: -40°C; Datasheet Version: Rev. 6, 06/2005; Package Quantity: 3000; Manufacturer URL: http://www.onsemi.com/; Power Rating: 250mW; RoHS Compliant: True; Max Ouput Current: 150mA; Pins: 5; Datasheet URL: http://www.onsemi.com/pub_link/Collateral/MC78PC00-D.PDF; Packaging: TapeandReel; Package Description: 5-Pin Small Outline Transistor, Body 2.9 x 1.65 mm, Pitch 0.95 mm; Nominal Output Voltage: 3.3V; Max Operating Temperature: 85°C; Case/Package: SOT-23-5; Mounting Technology: SM
footprint ONSC-SOT-23-5-1212-01_O_V (SOT23, 5-Leads, Body 3x1.80mm, Pitch 0.95mm)
pins: 1 VIN (power) "Input Pin", 2 GND (power) "Ground Pin", 3 CE (in) "Chip Enable Pin", 4 NC "No Connection", 5 VOUT (power) "Output Pin"

## CMP-019-00029-4
designator U?, comment MC78PC50NTRG
Low Noise Low Drop Out (LDO) Linear Voltage Regulator, 5 V Output Voltage, 150 mA, -40 to 85 degC, 5-Pin SOT-23 (1212-01), Pb-Free, Tape and Reel; Manufacturer: ON Semiconductor; Output Current: 150mA; Outputs: 1; Max Input Voltage: 8V; Output Voltage: 5V; Power: 250mW; Dropout Voltage: 260mV; Mounting Technology: SM; Package Quantity: 3000; Pins: 5; Package Description: 5-Pin Small Outline Transistor, Body 2.9 x 1.65 mm, Pitch 0.95 mm; Datasheet Version: Rev. 6, 06/2005; Datasheet URL: http://www.onsemi.com/pub_link/Collateral/MC78PC00-D.PDF; Package Reference: SOT-23-5-1212-01_O; Packaging: TapeandReel; Min Operating Temperature: -40°C; Max Operating Temperature: 85°C; Case/Package: SOT-23-5; Manufacturer URL: http://www.onsemi.com/; RoHS Compliant: True
footprint ONSC-SOT-23-5-1212-01_O_V (SOT23, 5-Leads, Body 3x1.80mm, Pitch 0.95mm)
pins: 1 VIN (power) "Input Pin", 2 GND (power) "Ground Pin", 3 CE (in) "Chip Enable Pin", 4 NC "No Connection", 5 VOUT (power) "Output Pin"

## CMP-019-00030-4
designator U?, comment NCP1117ST33T3G
Low-Dropout Positive Fixed Voltage Regulator, 1 A, 3.3 V Output Voltage, 0 to 125 degC, 4-Pin SOT-223 (318H-01), Pb-Free, Tape and Reel; Manufacturer: ON Semiconductor; Min Supply Voltage: 4.75V; Output Voltage: 3.3V; Min Input Voltage: 3.5V; Max Ouput Current: 1A; Max Input Voltage: 20V; Outputs: 1; Dropout Voltage: 1.1V; Max Supply Voltage: 15V; Package Quantity: 4000; Pins: 3; Max Operating Temperature: 125°C; RoHS Compliant: True; Manufacturer URL: http://www.onsemi.com/; Min Operating Temperature: 0°C; Datasheet Version: Rev. 27, 09/2014; Case/Package: SOT-223-4; Package Description: 4-Pin Small Outline Transistor, Body 6.5 x 3.5 mm, Pitch 2.3 mm; Packaging: TapeandReel; Nominal Output Voltage: 3.3V; Mounting Technology: SM; Package Reference: SOT-223-4-318H-01_A; Datasheet URL: http://www.onsemi.com/pub_link/Collateral/NCP1117-D.PDF; Output Current: 1A
footprint ONSC-SOT-223-4-318H-01_A_V (SOT223, 4-Leads, Body 6.7x3.7mm, Pitch 2.3mm)
pins: 1 ADJ/GND, 2 OUT (power), 3 IN (power), 4 TAB

## CMP-019-00031-4
designator U?, comment NCP1117ST50T3G
Low-Dropout Positive Fixed Voltage Regulator, 1 A, 5 V Vout, 0 to 125 degC, 4-Pin SOT-223, Pb-Free, Tape and Reel; Manufacturer: ON Semiconductor; Min Input Voltage: 3.5V; Max Input Voltage: 20V; Dropout Voltage: 1.2V; Nominal Output Voltage: 5V; Outputs: 1; Max Ouput Current: 1A; Current Rating: -600A; Datasheet Version: Rev. 26, 08/2013; Manufacturer URL: http://www.onsemi.com/; Packaging: TapeandReel; Case/Package: TO-261-4; Package Quantity: 4000; Mounting Technology: SM; RoHS Compliant: True; Datasheet URL: https://datasheet.ciiva.com/28483/1748260-28483320.pdf; Pins: 3; Package Description: 4-Pin Small Outline Transistor, Body 6.5 x 3.5 mm, Pitch 2.3 mm; Min Operating Temperature: 0°C; Output Current: 1A; Output Voltage: 5V; Max Operating Temperature: 125°C; Package Reference: SOT-223-4-318H-01_A
footprint ONSC-SOT-223-4-318H-01_A_V (SOT223, 4-Leads, Body 6.7x3.7mm, Pitch 2.3mm)
pins: 1 GND (power), 2 OUT (out), 3 IN (in), 4 TAB (power)

## CMP-019-00032-4
designator U?, comment UA7805CKTTR
Fixed Positive Voltage Regulator, 7 to 25 V, 1.5 A, 0 to 125 degC, 3-Pin DDPAK (KTT), Green (RoHS & no Sb/Br), Tape and Reel; Manufacturer: Texas Instruments; Max Input Voltage: 25V; Dropout Voltage: 2V; Nominal Output Voltage: 5V; Min Input Voltage: 7V; Max Ouput Current: 1.5A; Outputs: 1; Manufacturer URL: http://www.ti.com/; Mounting Technology: SM; Package Description: 3-Pin Surface Mount Device, Body 10.16 x 9.015 mm, Pitch 2.54 mm; Case/Package: TO-263-4; Datasheet Version: SLVS056P, 01/2015; Datasheet URL: http://www.ti.com/lit/ds/symlink/ua7805.pdf; Max Operating Temperature: 125°C; Min Operating Temperature: 0°C; Package Quantity: 500; Output Voltage: 5V; Packaging: TapeandReel; RoHS Compliant: True; Pins: 3; Output Current: 1.5A; Package Reference: KTT0003A
footprint KTT0003A_V (DPAK, 3-Leads, Body 10.65x9.65mm, Pitch 2.54mm)
pins: 1 INPUT (power) "Supply Input", 2 COMMON (power) "Ground", 3 OUTPUT (power) "Voltage Output", 4 COMMON (power) "Ground"

## CMP-019-00034-3
designator U?, comment FM25V02A-DGTR
REEL / F-RAM Memory Serial; Speed: 40MHz; Memory Format: FRAM,RAM; Pins: 8; Min Operating Temperature: -40°C; Case/Package: DFN; Max Operating Temperature: 85°C
footprint SON95P400X75_HS-9N (SON, 8-Leads, Body 4,50x4,00mm, Pitch 0,95mm, Thermal Pad 2,61x2,88mm, IPC Medium Density)
footprint SON95P400X75_HS-9N (SON, 8-Leads, Body 4,50x4,00mm, Pitch 0,95mm, Thermal Pad 2,61x2,88mm, IPC Medium Density)
pins: 1 ~{CS} (in) "Chip Select. This active LOW input activates the device. When HIGH, the device enters the  low-power standby mode, ignores other inputs, and the output is tristated. When LOW, the device  internally activates the SCK signal. A falling edge on C\S\ must occur before every opcode.", 2 SO (out) "Serial Output. This is the data output pin. It is driven during a read and remains tristated at all other  times including when H\O\L\D\ is LOW. Data transitions are driven on the falling edge of the serial clock.", 3 ~{WP} (in) "Write Protect. This active LOW pin prevents write operation to the Status Register when WPEN is  set to ‘1’. This is critical because other write protection features are controlled through the Status  Register.", 4 VSS (power) "Ground for the device. Must be connected to the ground of the system.", 5 SI (in) "Serial Input. All data is input to the device on this pin. The pin is sampled on the rising edge of SCK  and is ignored at other times. It should always be driven to a valid logic level to meet IDD specifications.", 6 SCK (in) "Serial Clock. All I/O activity is synchronized to the serial clock. Inputs are latched on the rising edge  and outputs occur on the falling edge. Because the device is synchronous, the clock frequency may  be any value between 0 and 40 MHz and may be interrupted at any time.", 7 ~{HOLD} (in) "The H\O\L\D\ pin is used when the host CPU must interrupt a memory operation for another  task. When H\O\L\D\ is LOW, the current operation is suspended. The device ignores any transition  on SCK or C\S\. All transitions on H\O\L\D\ must occur while SCK is LOW. This pin has a weak internal  pull-up", 8 VDD (power) "Power supply input to the device."

## CMP-019-00035-4
designator U?, comment LT3470EDDB
Micropower Buck Regulator with Integrated Boost and Catch Diode, 8-pin SON (DDB-8), -40 to 85 degC, Tape and Reel; Output Voltage: 16V; Max Operating Temperature: 85°C; Min Operating Temperature: -40°C; Case/Package: DFN; Pins: 9
footprint LT-DDB-8_V (SON, 8-Leads, Body 3x2mm, Pitch 0.5mm, Thermal Pad 2.2x0.61mm)
footprint LT-DDB-8_V (SON, 8-Leads, Body 3x2mm, Pitch 0.5mm, Thermal Pad 2.2x0.61mm)
pins: 1 FB "The LT3470X regulates its feedback pin to 1.25V. Connect the feedback resistor divider tap to this pin. Set the output voltage according to VOUT = 1.25V (1 + R1/R2) or R1 = R2 (VOUT/1.25 - 1).", 2 BIAS (power) "The BIAS pin connects to the internal boost Schottky diode and to the internal regulator. Tie to VOUT when VOUT > 2.5V or to VIN otherwise. When VBIAS > 3V the BIAS pin will supply current to the internal regulator.", 3 BOOST "The BOOST pin is used to provide a drive voltage, which is higher than the input voltage, to the internal bipolar NPN power switch.", 4 SW (power) "The SW pin is the output of the internal power switch. Connect this pin to the inductor, catch diode and boost capacitor.", 5 GND "This pin can be left floating, connected to VIN, or tied to GND.", 6 VIN (power) "The VIN pin supplies current to the LT3470X’s internal regulator and to the internal power switch. This pin must be locally bypassed.", 7 NC "This pin can be left floating, connected to VIN, or tied to GND.", 8 ~{SHDN} "The S\H\D\N\ pin is used to put the LT3470X in shutdown mode. Tie to ground to shut down the LT3470A. Apply 2V or more for normal operation. If the shutdown feature is not used, tie this pin to the VIN pin.", 9 EP "This pin can be left floating, connected to VIN, or tied to GND."

## CMP-019-00036-4
designator U?, comment TPS62060DSG
Step Down Converter, 3 MHz, 1.6 A, -45 to 85 degC, 8-Pin WSON, RoHS, Tape and Reel; Pins: 9
footprint DSG0008A_V (SON, 8-Leads, Body 2x2mm, Pitch 0.5mm, Thermal Pad 1.6x0.9mm, TI Recommended)
footprint DSG0008A_V (SON, 8-Leads, Body 2x2mm, Pitch 0.5mm, Thermal Pad 1.6x0.9mm, TI Recommended)
pins: 1 PGND (power) "GND supply pin for the output stage.", 2 SW (power) "This is the switch pin and is connected to the internal MOSFET switches. Connect the external inductor between this terminal and the output capacitor.", 3 AGND (power) "Analog GND supply pin for the control circuit.", 4 FB (in) "Feedback pin for the internal regulation loop. Connect the external resistor divider to this pin. In case of fixed output voltage option, connect this pin directly to the output capacitor", 5 EN (in) "This is the enable pin of the device. Pulling this pin to low forces the device into shutdown mode. Pulling this pin to high enables the device. This pin must be terminated", 6 MODE (in) "MODE: MODE pin = high forces the device to operate in fixed frequency PWM mode. MODE pin = low enables the Power Save Mode with automatic transition from PFM mode to fixed frequency PWM mode.", 7 AVIN (power) "Analog VIN power supply for the control circuit. Need to be connected to PVIN and input capacitor.", 8 PVIN (power) "VIN power supply pin for the output stage.", 9 GND (power) "For good thermal performance, this PAD must be soldered to the land pattern on the pcb. This PAD should be used as device GND."

## CMP-019-00038-4
designator U?, comment TPS62060DSG
Step Down Converter, 3 MHz, 1.6 A, -45 to 85 degC, 8-Pin WSON, RoHS, Tape and Reel; Pins: 9
footprint DSG0008A_V (SON, 8-Leads, Body 2x2mm, Pitch 0.5mm, Thermal Pad 1.6x0.9mm, TI Recommended)
footprint DSG0008A_V (SON, 8-Leads, Body 2x2mm, Pitch 0.5mm, Thermal Pad 1.6x0.9mm, TI Recommended)
pins: 1 PGND (power) "GND supply pin for the output stage.", 2 SW (power) "This is the switch pin and is connected to the internal MOSFET switches. Connect the external inductor between this terminal and the output capacitor.", 3 AGND (power) "Analog GND supply pin for the control circuit.", 4 FB (in) "Feedback pin for the internal regulation loop. Connect the external resistor divider to this pin. In case of fixed output voltage option, connect this pin directly to the output capacitor", 5 EN (in) "This is the enable pin of the device. Pulling this pin to low forces the device into shutdown mode. Pulling this pin to high enables the device. This pin must be terminated", 6 MODE (in) "MODE: MODE pin = high forces the device to operate in fixed frequency PWM mode. MODE pin = low enables the Power Save Mode with automatic transition from PFM mode to fixed frequency PWM mode.", 7 AVIN (power) "Analog VIN power supply for the control circuit. Need to be connected to PVIN and input capacitor.", 8 PVIN (power) "VIN power supply pin for the output stage.", 9 GND (power) "For good thermal performance, this PAD must be soldered to the land pattern on the pcb. This PAD should be used as device GND."

## CMP-019-00040-4
designator U?, comment LP5907SNX-3.3
Ultra-Low-Noise, Low-IQ LDO, 3.3 V, 0.25 A, -40 to 125 degC, 4-Pin X2SON, RoHS, Tape and Reel; Output Voltage: 3.3V; Min Operating Temperature: -40°C; Max Operating Temperature: 125°C; Pins: 5
footprint TI-DQN4-480X480TP_V (SON, 4-Leads, Body 1x1mm, Pitch 0.65mm, Thermal Pad 0.5x0.5mm)
footprint TI-DQN4-480X480TP_V (SON, 4-Leads, Body 1x1mm, Pitch 0.65mm, Thermal Pad 0.5x0.5mm)
pins: 1 OUT (power) "Output voltage. A 1-uF Low ESR capacitor should be connected to this pin. Connect this output to the load circuit. An internal 280 Ohm discharge resistor prevents a charge remaining on VOUT when VEN is low.", 2 GND (power) "Common ground", 3 EN (in) "Enable input", 4 IN (power) "Input voltage supply. A 1-µF capacitor should be connected at this input.", 5 EP (power) "Thermal pad for X2SON package, connect to GND or Floating"

## CMP-019-00042-4
designator U?, comment STUSB4500QTR
Standalone USB PD Sink Controller with Short-to-VBUS Protections, 4.1 to 22 V, -45 to 105 degC, 24-Pin QFN, RoHS, Tape and Reel; Pins: 25
footprint STM-QFN-24_V (QFN, 24-Leads, Body 4x4mm, Pitch 0.5mm, Thermal Pad 2.7x2.7mm)
footprint STM-QFN-24_V (QFN, 24-Leads, Body 4x4mm, Pitch 0.5mm, Thermal Pad 2.7x2.7mm)
pins: 1 CC1DB (io) "Dead battery enable on CC1 pin", 2 CC1 (io) "Type-C configuration channel 1", 3 NC, 4 CC2 (io) "Type-C configuration channel 2", 5 CC2DB (io) "Dead battery enable on CC2 pin", 6 RESET (in) "Reset input, active high", 7 SCL (in) "I2C clock input", 8 SDA (io) "I2C data input/output, active low open drain", 9 DISCH (oc) "Internal discharge path or external discharge path enable, active low open drain", 10 GND (power) "Ground", 11 ~{ATTACH} (oc) "Attachment detection, active low open drain", 12 ADDR0 (in) "I²C device address setting", 13 ADDR1 (in) "I²C device address setting", 14 ~{POWER_OK3} (oc) "Power contract flag, active low open drain", 15 ~{GPIO} (oc) "General purpose output, active low open drain", 16 ~{VBUS_EN_SNK} (oc) "VBUS sink power path enable, active low open drain", 17 ~{A_B_SIDE} (oc) "Cable orientation, active low open drain", 18 VBUS_VS_DISCH "VBUS voltage monitoring and discharge path", 19 ~{ALERT} (oc) "I2C interrupt, active low open drain", 20 ~{POWER_OK2} (oc) "Power contract flag, active low open drain", 21 VREG_1V2 (power) "1.2 V internal regulator output", 22 VSYS (power) "Power supply from system", 23 VREG_2V7 (power) "2.7 V internal regulator output", 24 VDD (power) "Power supply from USB power line", 25 EP (power) "Exposed pad is connected to ground"

## CMP-019-00043-4
designator P?, comment WIRE_PAD_7x4  (no BOM)
SMD WIRE PAD 7 x 4 mm; Pins: 1
footprint WIRE_PAD_7x4-Footprint-1
footprint WIRE_PAD_7x4-Footprint-1
pins: 1 H1

## CMP-019-00044-4
designator U?, comment LT3470AIDDB
Micropower Buck Regulator with Integrated Boost and Catch Diode, 8-pin SON (DDB-8), -40 to 85 degC; Output Voltage: 16V; Min Operating Temperature: -40°C; Pins: 9; Case/Package: DFN; Max Operating Temperature: 125°C
footprint LT-DDB-8_V (SON, 8-Leads, Body 3x2mm, Pitch 0.5mm, Thermal Pad 2.2x0.61mm)
footprint LT-DDB-8_V (SON, 8-Leads, Body 3x2mm, Pitch 0.5mm, Thermal Pad 2.2x0.61mm)
pins: 1 FB "The LT3470X regulates its feedback pin to 1.25V. Connect the feedback resistor divider tap to this pin. Set the output voltage according to VOUT = 1.25V (1 + R1/R2) or R1 = R2 (VOUT/1.25 - 1).", 2 BIAS (power) "The BIAS pin connects to the internal boost Schottky diode and to the internal regulator. Tie to VOUT when VOUT > 2.5V or to VIN otherwise. When VBIAS > 3V the BIAS pin will supply current to the internal regulator.", 3 BOOST "The BOOST pin is used to provide a drive voltage, which is higher than the input voltage, to the internal bipolar NPN power switch.", 4 SW (power) "The SW pin is the output of the internal power switch. Connect this pin to the inductor, catch diode and boost capacitor.", 5 GND "This pin can be left floating, connected to VIN, or tied to GND.", 6 VIN (power) "The VIN pin supplies current to the LT3470X’s internal regulator and to the internal power switch. This pin must be locally bypassed.", 7 NC "This pin can be left floating, connected to VIN, or tied to GND.", 8 ~{SHDN} "The S\H\D\N\ pin is used to put the LT3470X in shutdown mode. Tie to ground to shut down the LT3470A. Apply 2V or more for normal operation. If the shutdown feature is not used, tie this pin to the VIN pin.", 9 EP "This pin can be left floating, connected to VIN, or tied to GND."